# Altium schematic symbol library LiPoBattery.SchLib: 3 symbols
Pins are listed as number, name and electrical type; pins without a type are passive.

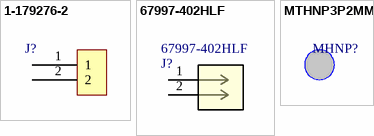
[diagram p0: symbols 1-179276-2 to MTHNP3P2MM]

## 1-179276-2
designator J?, comment CONN HEADER R/A 2POS 5.08MM  (value not drawn)
Connector Header Through Hole, Right Angle 2 position 0.200" (5.08mm); Manufacter: TE Connectivity-AMP Connectors; Manufacturer Part Number: 1-179276-2; Supplier 1: Digikey; ComponentLink1Description: Product URL; ComponentLink1URL: https://www.te.com/en/product-1-179276-2.html?te_bu=Cor&te_type=srch&te_campaign=oct_usa_cor-oct-usa-srch-smbmktg-fy23-octopart-feed_sma-2210_1&elqCampaignId=147303; Supplier Part Number 1: A29545-ND
footprint 1-179276-2 (DYNAMIC_3200_HDR_ASSY_2P_HEADER_X19MM_Y22MM)
pins: 1, 2

## 67997-402HLF
designator J?, comment Supplier Part Number 1: 67997-402HLF  (hidden comment: 2 POS VERT HEADER(0.001inch))
CONN HEADER VERT 2POS; Mfr_Name: Amphenol ICC; Digi-Key_Part_Number_2: 67997-402HLF-ND; Digi-Key_Part_Number_1: 609-5502-ND; RefDes: RefDes; Type: Type; Supplier 1: Arrow Electronics
footprint 2Pins_AMP
pins: 1, 2

## MTHNP3P2MM
designator MHNP?, comment Mounting Hole Non-Plated 3.2mm  (value not drawn)
Mounting Hole Non-Plated 3.2mm drill hole
footprint MTHNP3P2MM (Mounting Hole Non-Plated 3.2 mm hole)